# EAGLE library part SATA_CONN (library xess)
Serial ATA Connector
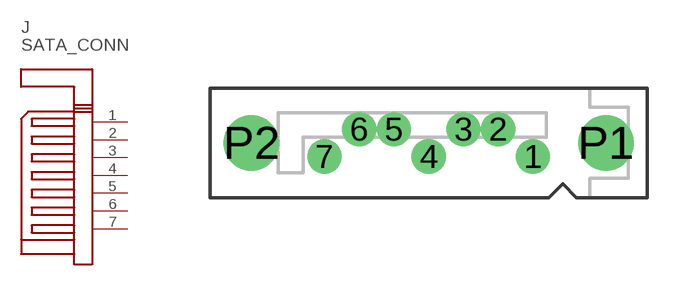
[diagram p38: symbol with the pads of MOLEX-67491; footprint MOLEX-67491]

Designator prefix J

## SATA_CONN  [MOLEX-67491]
1  1
2  2
3  3
4  4
5  5
6  6
7  7

## Footprint MOLEX-67491 (pad centres in mm)
drill 0.74 pad 1.09 round: 1 3.81,-0.5; 2 2.54,0.5; 3 1.27,0.5; 4 0,-0.5; 5 -1.27,0.5; 6 -2.54,0.5; 7 -3.81,-0.5
drill 1.35 round: P1 6.48,0; P2 -6.48,0